# Altium footprint library Шунты.PcbLib: 1 footprints
Each footprint in its own frame and in the unit in brackets; x right, y up, seen from the top. Pads: shape width x height; smd on the part's side, far side on the other; paste and mask are expansions set on the pad; w line width, h text height; cw(c..) or ccw(c..) is an arc to the next point about the centre after c.
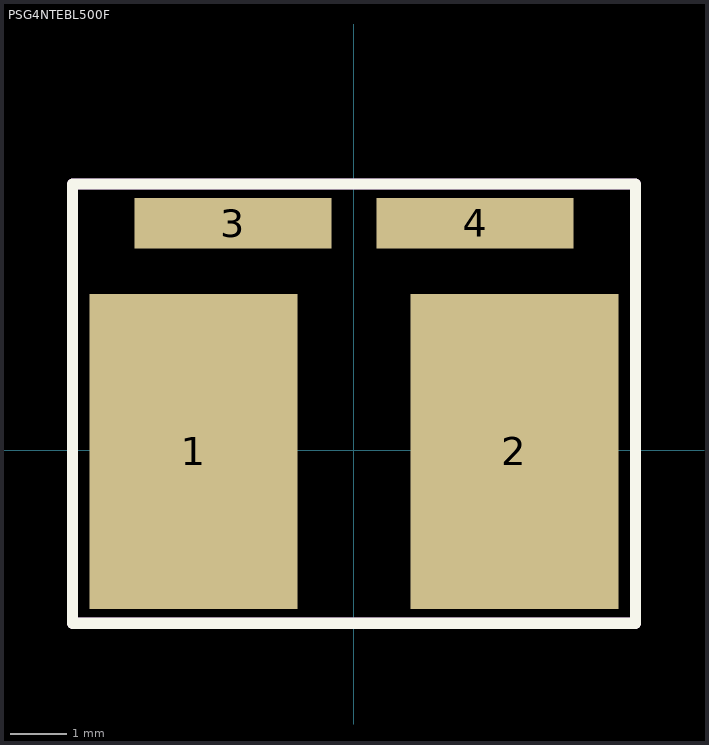
[diagram p0: the footprint, top view; thin cyan lines are the x and y axes]

## PSG4NTEBL500F [mm]
pads (4):
  rect 3.7x5.6 smd: 1(-2.85,-0.025) 2(2.85,-0.025)
  rect 3.5x0.9 smd: 3(-2.15,4.025) 4(2.15,4.025)
Top Overlay:
  lines w0.2: -5,-3.075 -5,4.725 5,4.725 5,-3.075 -5,-3.075
TopAssy:
  lines w0.2: -5,-3.075 5,-3.075 5,4.725 -5,4.725 -5,-3.075
  text ".Designator" at -2.6,0.325 h1.52